# Altium footprint library eBug2014-CameraArray.PcbLib: 29 footprints (part 2 of 2)
Each footprint in its own frame and in the unit in brackets; x right, y up, seen from the top. Pads: shape width x height; smd on the part's side, far side on the other; paste and mask are expansions set on the pad; w line width, h text height; cw(c..) or ccw(c..) is an arc to the next point about the centre after c.
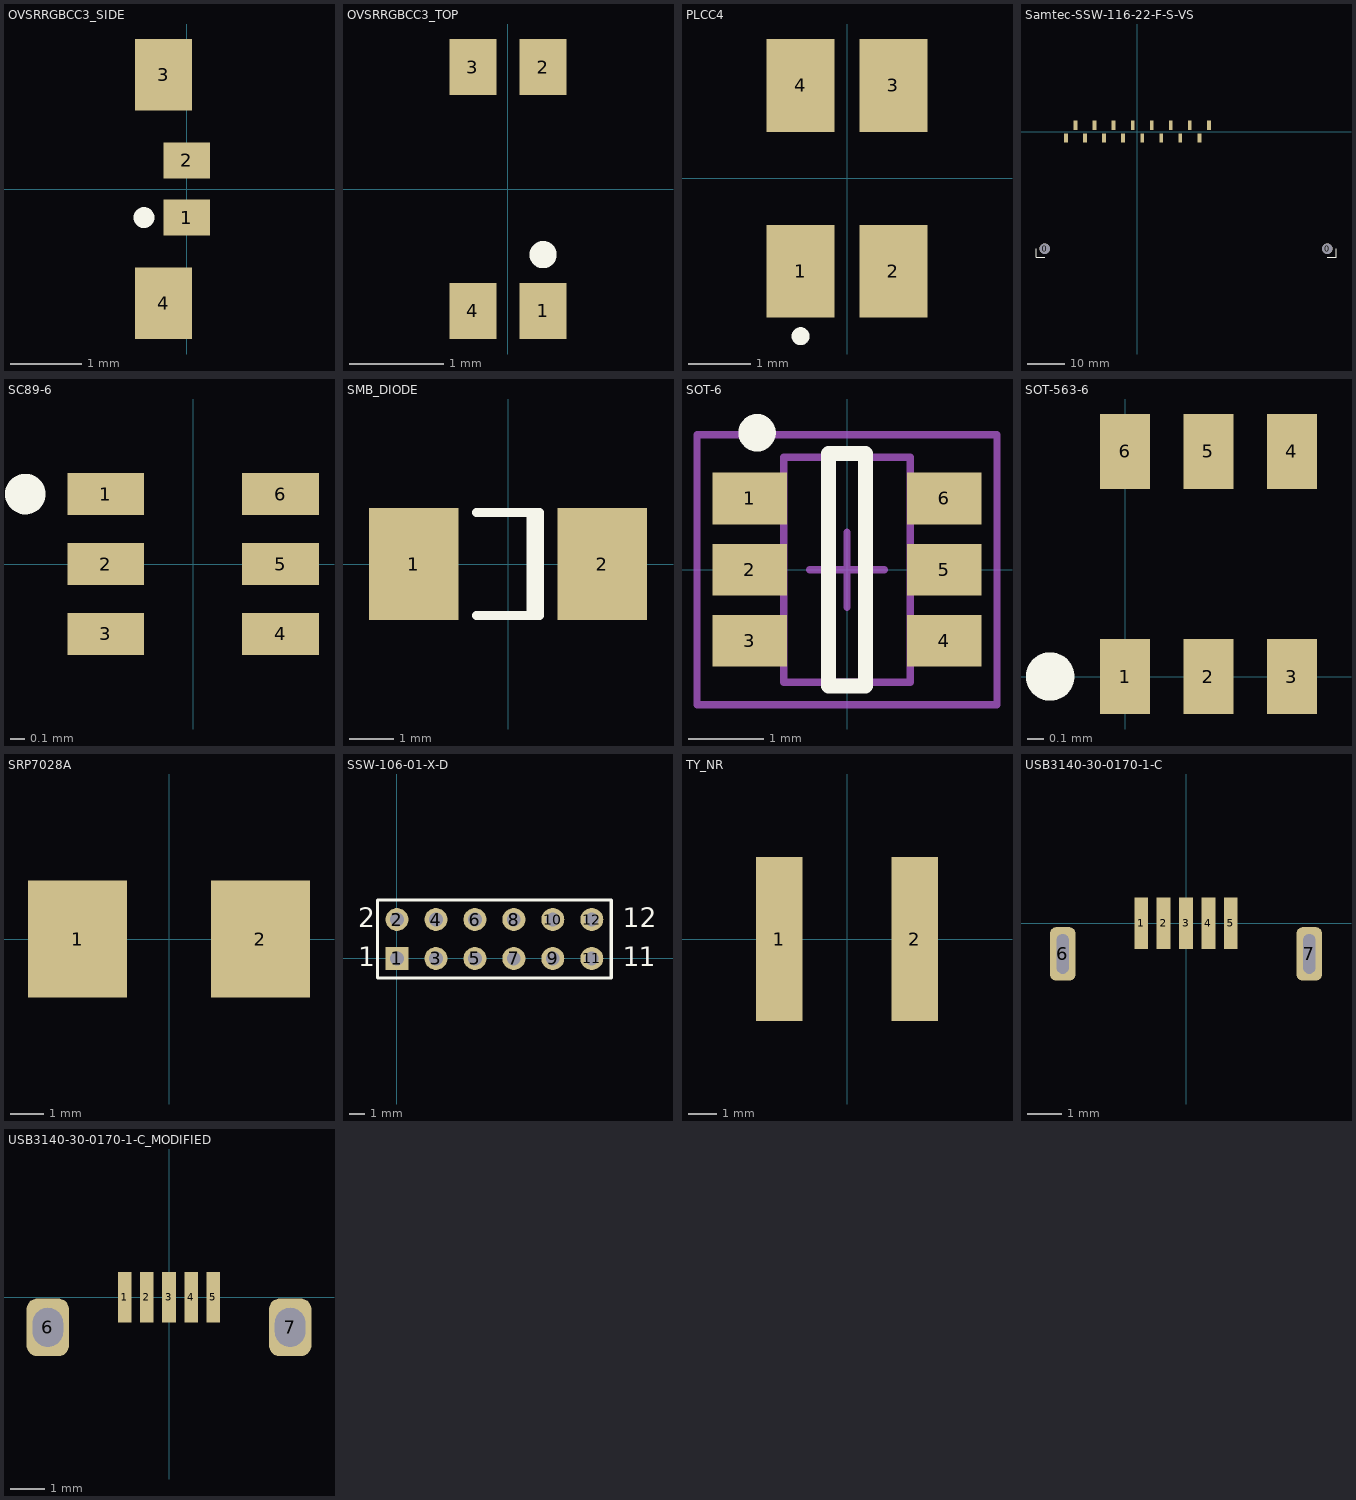
[diagram p1: the footprints below, top view; thin cyan lines are the x and y axes]

## OVSRRGBCC3_SIDE [mm]
pads (4):
  rect 0.65x0.5 smd: 1(0,-0.4) 2(0,0.4)
  rect 0.8x1 smd: 3(-0.325,1.6) 4(-0.325,-1.6)
Top Overlay:
  circle w0.2: c-0.6,-0.4 r0.045
3D body: height 1.01, standoff 0.01, extent -1.575,-1.6 -0.075,1.6

## OVSRRGBCC3_TOP [mm]
pads (4):
  rect 0.5x0.6 smd: 1(0.375,-1.3) 2(0.375,1.3) 3(-0.375,1.3) 4(-0.375,-1.3)
Top Overlay:
  circle w0.2: c0.375,-0.7 r0.045
3D body: height 1.51, standoff 0.01, extent -0.5,-1.6 0.5,1.6

## PLCC4 [mm]
pads (4):
  rect 1.1x1.5 smd: 1(-0.75,-1.5) 2(0.75,-1.5) 3(0.75,1.5) 4(-0.75,1.5)
Top Overlay:
  circle w0.2: c-0.75,-2.55 r0.045
3D body: height 1.9, standoff 0, extent -1.1,-1.6 1.1,1.6

## Samtec-SSW-116-22-F-S-VS [mm]
pads (18):
  round 2.8 hole 2.8 paste+0 mask+0: 0(-24.75,-31.2) 0(50.65,-31.2)
  rect 1.02x2.41 smd: 1(-19.05,-1.714) 2(-16.51,1.714) 3(-13.97,-1.714) 4(-11.43,1.714) 5(-8.89,-1.714) 6(-6.35,1.714) 7(-3.81,-1.714) 8(-1.27,1.714) 9(1.27,-1.714) 10(3.81,1.714) 11(6.35,-1.714) 12(8.89,1.714) 13(11.43,-1.714) 14(13.97,1.714) 15(16.51,-1.714) 16(19.05,1.714)
Top Overlay:
  lines w0.1: -27.05,-31.2 -27.05,-33.5 -24.75,-33.5 ; 50.65,-33.5 52.95,-33.5 52.95,-31.2
3D body: height 14.87, standoff 3.95, extent -20.32,-1.27 20.32,1.27
3D body: height 21.92, standoff 13.92, extent -20.05,-24.1 45.9,-6.9
3D body: height 20.92, standoff 13.92, extent -22.4,-28.25 48.3,-2.75
3D body: height 14.02, standoff 12.32, extent 49.261,-1.197 52.05,1.597
3D body: height 14.02, standoff 12.32, extent -26.139,-1.197 -23.35,1.597
3D body: height 9.79, standoff 0.01, extent -20.574,-2.578 20.574,2.578
3D body: height 13.92, standoff 12.32, extent -27.05,-33.5 52.95,2.5
3D body: height 14.02, standoff 12.32, extent -26.139,-32.597 -23.35,-29.803
3D body: height 14.02, standoff 12.32, extent 49.261,-32.597 52.05,-29.803

## SC89-6 [mm]
pads (6):
  rect 0.55x0.3 smd: 1(-0.625,0.5) 2(-0.625,0) 3(-0.625,-0.5) 4(0.625,-0.5) 5(0.625,0) 6(0.625,0.5)
Top Overlay:
  circle w0.2: c-1.2,0.5 r0.045
3D body: height 0.6, standoff 0, extent -0.6,-0.85 0.6,0.85

## SMB_DIODE [mm]
pads (2):
  rect 2x2.5 smd: 1(-2.1,0) 2(2.1,0)
Top Overlay:
  lines w0.2: -0.7,-1.15 0.7,-1.15 0.7,1.15 -0.7,1.15 ; 0.51,-1.15 0.51,1.15
3D body: height 2.4, standoff 0, extent -2.35,-1.9 2.35,1.9

## SOT-6 [mm]
pads (6):
  rect 0.99x0.69 smd: 1(-1.295,0.95) 2(-1.295,0) 3(-1.295,-0.95) 4(1.295,-0.95) 5(1.295,0) 6(1.295,0.95)
Top Overlay:
  circle w0.25: c-1.2,1.825 r0.125
  lines w0.2: -0.25,-1.55 0.25,-1.55 0.25,1.55 -0.25,1.55 -0.25,-1.55
Mechanical 13:
  lines w0.1: -0.84,-1.5 -0.84,1.5 0.84,1.5 0.84,-1.5 -0.84,-1.5
Mechanical 15:
  lines w0.1: -0.5,0 0.5,0 ; 0,-0.5 0,0.5 ; -2,-1.8 -2,1.8 2,1.8 2,-1.8 -2,-1.8
3D body: height 1.45, standoff 0, extent -0.84,-1.5 0.84,1.5

## SOT-563-6 [mm] "SOT-563, 6 LEAD"
pads (6):
  rect 0.3x0.45 smd: 1(0,0) 2(0.5,0) 3(1,0) 4(1,1.35) 5(0.5,1.35) 6(0,1.35)
Top Overlay:
  circle w0.2: c-0.45,0 r0.045
3D body: height 0.55, standoff 0, extent -0.3,0.1 1.3,1.3

## SRP7028A [mm]
pads (2):
  rect 2.95x3.5 smd: 1(-2.725,0) 2(2.725,0)
3D body: height 2.8, standoff 0, extent -3.65,-3.3 3.65,3.3

## SSW-106-01-X-D [mm] "Connector; Header; 6x2 Position"
pads (12):
  rect 1.5x1.5 hole 0.9: 1(0,0)
  round 1.5 hole 0.9: 2(0,2.54) 3(2.54,0) 4(2.54,2.54) 5(5.08,0) 6(5.08,2.54) 7(7.62,0) 8(7.62,2.54) 9(10.16,0) 10(10.16,2.54) 11(12.7,0) 12(12.7,2.54)
Top Overlay:
  lines w0.2: -1.27,-1.27 -1.27,3.81 13.97,3.81 13.97,-1.27 -1.27,-1.27
  text "2" at -2.54,2.032 h1.27
  text "1" at -2.54,-0.508 h1.27
  text "1" at 14.732,-0.508 h1.27
  text "1" at 15.748,-0.508 h1.27
  text "12" at 14.732,2.032 h1.27
3D body: height 8.52, standoff -2.63, extent -1.524,-1.206 14.224,3.747

## TY_NR [mm]
pads (2):
  rect 1.6x5.7 smd: 1(-2.35,0) 2(2.35,0)
3D body: height 2.8, standoff 0, extent -3,-3 3,3

## USB3140-30-0170-1-C [mm]
pads (7):
  rect 0.4x1.5 smd: 1(-1.3,0) 2(-0.65,0) 3(0,0) 4(0.65,0) 5(1.3,0)
  rrect50% 0.75x1.55 hole 0.35 slot 1.15 at 90 deg: 6(-3.575,-0.89) 7(3.575,-0.89)
3D body: height 6.51, standoff -1.69, extent -3.901,-3.25 3.901,0.75

## USB3140-30-0170-1-C_MODIFIED [mm]
pads (7):
  rect 0.4x1.5 smd: 1(-1.3,0) 2(-0.65,0) 3(0,0) 4(0.65,0) 5(1.3,0)
  rrect50% 1.25x1.7 hole 0.9 slot 1.15 at 90 deg: 6(-3.575,-0.89) 7(3.575,-0.89)
3D body: height 6.51, standoff -1.69, extent -3.901,-3.25 3.901,0.75